# Altium schematic symbol library aiskylab-16PCBAs.SchLib: 11 symbols
Pins are listed as number, name and electrical type; pins without a type are passive.

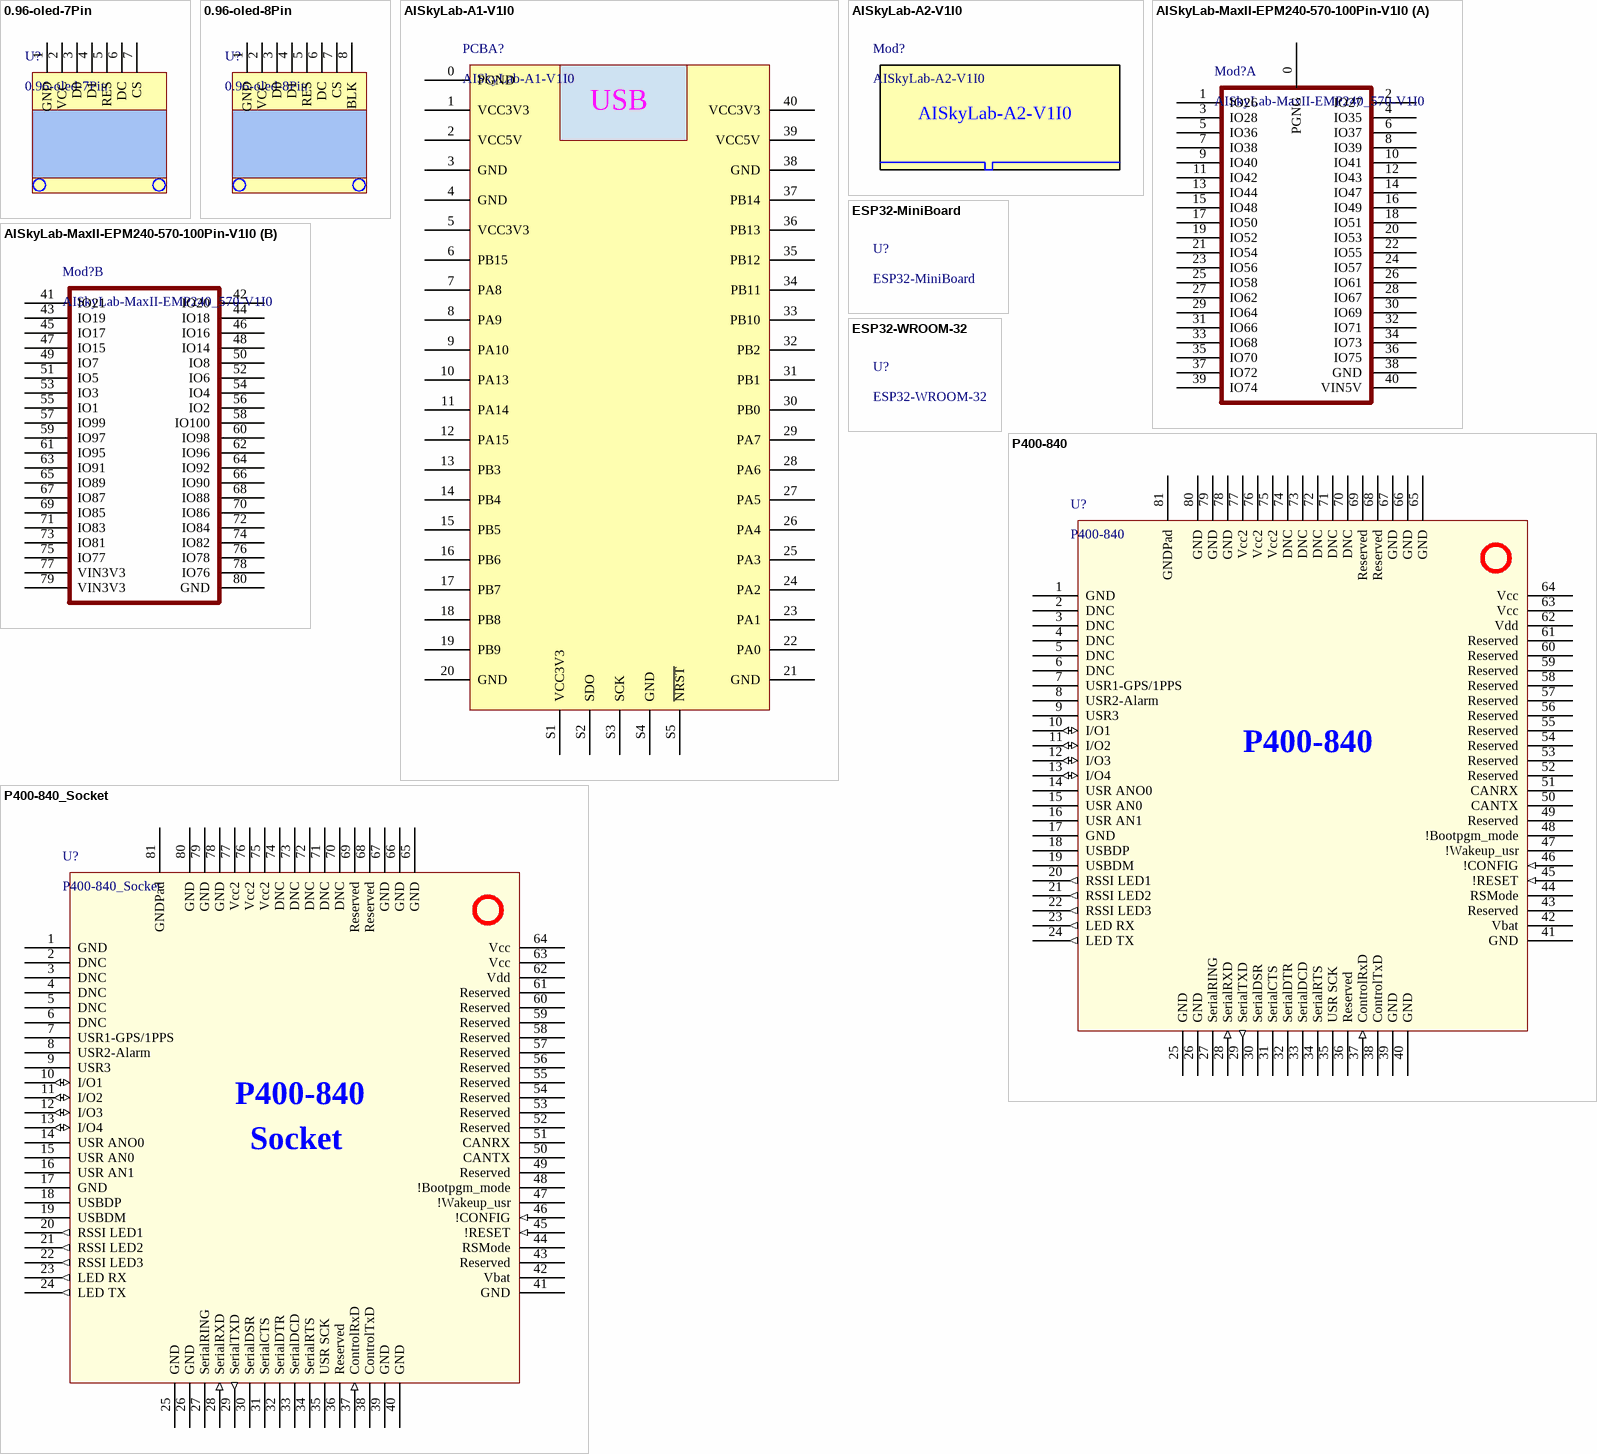
[diagram p0: symbols 0.96-oled-7Pin to P400-840_Socket]

## 0.96-oled-7Pin
designator U?
footprint 0.96 OLED - 7Pin
pins: 1 GND, 2 VCC, 3 D0, 4 D1, 5 RES, 6 DC, 7 CS

## 0.96-oled-8Pin
designator U?
footprint 0.96 OLED - 8Pin
pins: 1 GND, 2 VCC, 3 D0, 4 D1, 5 RES, 6 DC, 7 CS, 8 BLK

## AISkyLab-A1-V1I0
designator PCBA?
AISkyLab, F1xx-48Pin邮票孔核心板
footprint aiskyalb-a2-V1I0 (48Pin 核心板)
pins: 0 PGND, 1 VCC3V3, 2 VCC5V, 3 GND, 4 GND, 5 VCC3V3, 6 PB15, 7 PA8, 8 PA9, 9 PA10, 10 PA13, 11 PA14, 12 PA15, 13 PB3, 14 PB4, 15 PB5, 16 PB6, 17 PB7, 18 PB8, 19 PB9, 20 GND, 21 GND, 22 PA0, 23 PA1, 24 PA2, 25 PA3, 26 PA4, 27 PA5, 28 PA6, 29 PA7, 30 PB0, 31 PB1, 32 PB2, 33 PB10, 34 PB11, 35 PB12, 36 PB13, 37 PB14, 38 GND, 39 VCC5V, 40 VCC3V3, S1 VCC3V3, S2 SDO, S3 SCK, S4 GND, S5 ~{NRST}
text: USB

## AISkyLab-A2-V1I0
designator Mod?
SODIMM-260Pin,STM32F40x
footprint AISKYLAB-A2-V1I0

## AISkyLab-MaxII-EPM240-570-100Pin-V1I0
designator Mod?, comment AISkyLab-MaxII-EMP240_570-V1I0
AISkyLab MaxII 核心板
footprint EPM240_570_Mini_V1I0 (EPM240_570核心板模块)
part A pins: 0 PGNG, 1 IO26, 2 IO27, 3 IO28, 4 IO35, 5 IO36, 6 IO37, 7 IO38, 8 IO39, 9 IO40, 10 IO41, 11 IO42, 12 IO43, 13 IO44, 14 IO47, 15 IO48, 16 IO49, 17 IO50, 18 IO51, 19 IO52, 20 IO53, 21 IO54, 22 IO55, 23 IO56, 24 IO57, 25 IO58, 26 IO61, 27 IO62, 28 IO67, 29 IO64, 30 IO69, 31 IO66, 32 IO71, 33 IO68, 34 IO73, 35 IO70, 36 IO75, 37 IO72, 38 GND, 39 IO74, 40 VIN5V
part B pins: 41 IO21, 42 IO20, 43 IO19, 44 IO18, 45 IO17, 46 IO16, 47 IO15, 48 IO14, 49 IO7, 50 IO8, 51 IO5, 52 IO6, 53 IO3, 54 IO4, 55 IO1, 56 IO2, 57 IO99, 58 IO100, 59 IO97, 60 IO98, 61 IO95, 62 IO96, 63 IO91, 64 IO92, 65 IO89, 66 IO90, 67 IO87, 68 IO88, 69 IO85, 70 IO86, 71 IO83, 72 IO84, 73 IO81, 74 IO82, 75 IO77, 76 IO78, 77 VIN3V3, 78 IO76, 79 VIN3V3, 80 GND

## ESP32-MiniBoard
designator U?
ESP32核心板
footprint ESP32-MiniBoard

## ESP32-WROOM-32
designator U?
贴片wifi模块
footprint ESP32-WROOM-32

## P400-840
designator U?
通信-电台
footprint PICO-P400-840
pins: 1 GND (power), 2 DNC (power), 3 DNC, 4 DNC, 5 DNC, 6 DNC, 7 USR1-GPS/1PPS, 8 USR2-Alarm, 9 USR3, 10 I/O1 (io), 11 I/O2 (io), 12 I/O3 (io), 13 I/O4 (io), 14 USR ANO0, 15 USR AN0, 16 USR AN1, 17 GND (power), 18 USBDP, 19 USBDM, 20 RSSI LED1 (out), 21 RSSI LED2 (out), 22 RSSI LED3 (out), 23 LED RX (out), 24 LED TX (out), 25 GND (power), 26 GND (power), 27 SerialRING, 28 SerialRXD (in), 29 SerialTXD (out), 30 SerialDSR, 31 SerialCTS, 32 SerialDTR, 33 SerialDCD, 34 SerialRTS, 35 USR SCK, 36 Reserved, 37 ControlRxD (in), 38 ControlTxD, 39 GND (power), 40 GND (power), 41 GND (power), 42 Vbat (power), 43 Reserved, 44 RSMode, 45 !RESET (in), 46 !CONFIG (in), 47 !Wakeup_usr, 48 !Bootpgm_mode, 49 Reserved, 50 CANTX, 51 CANRX, 52 Reserved, 53 Reserved, 54 Reserved, 55 Reserved, 56 Reserved, 57 Reserved, 58 Reserved, 59 Reserved, 60 Reserved, 61 Reserved, 62 Vdd (power), 63 Vcc (power), 64 Vcc (power), 65 GND (power), 66 GND (power), 67 GND (power), 68 Reserved, 69 Reserved, 70 DNC, 71 DNC, 72 DNC, 73 DNC, 74 DNC, 75 Vcc2 (power), 76 Vcc2 (power), 77 Vcc2 (power), 78 GND (power), 79 GND (power), 80 GND (power), 81 GNDPad

## P400-840_Socket
designator U?
通信-电台
footprint PICO-OEN-Socket
pins: 1 GND (power), 2 DNC (power), 3 DNC, 4 DNC, 5 DNC, 6 DNC, 7 USR1-GPS/1PPS, 8 USR2-Alarm, 9 USR3, 10 I/O1 (io), 11 I/O2 (io), 12 I/O3 (io), 13 I/O4 (io), 14 USR ANO0, 15 USR AN0, 16 USR AN1, 17 GND (power), 18 USBDP, 19 USBDM, 20 RSSI LED1 (out), 21 RSSI LED2 (out), 22 RSSI LED3 (out), 23 LED RX (out), 24 LED TX (out), 25 GND (power), 26 GND (power), 27 SerialRING, 28 SerialRXD (in), 29 SerialTXD (out), 30 SerialDSR, 31 SerialCTS, 32 SerialDTR, 33 SerialDCD, 34 SerialRTS, 35 USR SCK, 36 Reserved, 37 ControlRxD (in), 38 ControlTxD, 39 GND (power), 40 GND (power), 41 GND (power), 42 Vbat (power), 43 Reserved, 44 RSMode, 45 !RESET (in), 46 !CONFIG (in), 47 !Wakeup_usr, 48 !Bootpgm_mode, 49 Reserved, 50 CANTX, 51 CANRX, 52 Reserved, 53 Reserved, 54 Reserved, 55 Reserved, 56 Reserved, 57 Reserved, 58 Reserved, 59 Reserved, 60 Reserved, 61 Reserved, 62 Vdd (power), 63 Vcc (power), 64 Vcc (power), 65 GND (power), 66 GND (power), 67 GND (power), 68 Reserved, 69 Reserved, 70 DNC, 71 DNC, 72 DNC, 73 DNC, 74 DNC, 75 Vcc2 (power), 76 Vcc2 (power), 77 Vcc2 (power), 78 GND (power), 79 GND (power), 80 GND (power), 81 GNDPad
text: P400-840; Socket

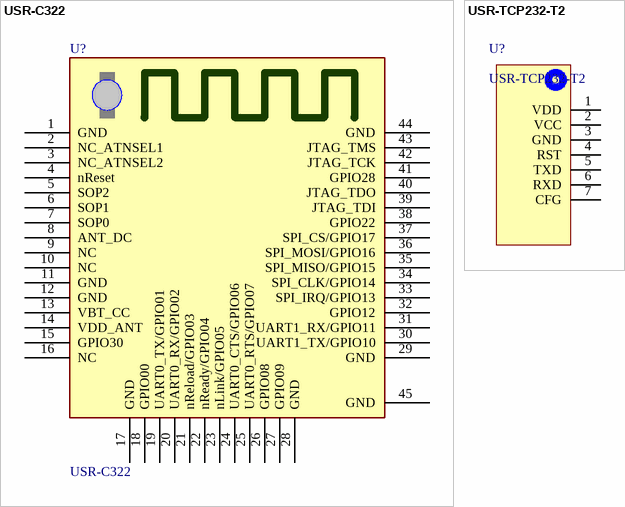
[diagram p1: symbols USR-C322 to USR-TCP232-T2]

## USR-C322
designator U?
Wif模块，有人科技
footprint USR-C322-PCB (USR-C322封装)
footprint USR-C322
pins: 1 GND, 2 NC_ATNSEL1, 3 NC_ATNSEL2, 4 nReset, 5 SOP2, 6 SOP1, 7 SOP0, 8 ANT_DC, 9 NC, 10 NC, 11 GND, 12 GND, 13 VBT_CC, 14 VDD_ANT, 15 GPIO30, 16 NC, 17 GND, 18 GPIO00, 19 UART0_TX/GPIO01, 20 UART0_RX/GPIO02, 21 nReload/GPIO03, 22 nReady/GPIO04, 23 nLink/GPIO05, 24 UART0_CTS/GPIO06, 25 UART0_RTS/GPIO07, 26 GPIO08, 27 GPIO09, 28 GND, 29 GND, 30 UART1_TX/GPIO10, 31 UART1_RX/GPIO11, 32 GPIO12, 33 SPI_IRQ/GPIO13, 34 SPI_CLK/GPIO14, 35 SPI_MISO/GPIO15, 36 SPI_MOSI/GPIO16, 37 SPI_CS/GPIO17, 38 GPIO22, 39 JTAG_TDI, 40 JTAG_TDO, 41 GPIO28, 42 JTAG_TCK, 43 JTAG_TMS, 44 GND, 45 GND

## USR-TCP232-T2
designator U?
串口转网口，有人科技
footprint USR-TCP232-T2
pins: 1 VDD, 2 VCC, 3 GND, 4 RST, 5 TXD, 6 RXD, 7 CFG